# Altium footprint library Реле.PcbLib: 2 footprints
Each footprint in its own frame and in the unit in brackets; x right, y up, seen from the top. Pads: shape width x height; smd on the part's side, far side on the other; paste and mask are expansions set on the pad; w line width, h text height; cw(c..) or ccw(c..) is an arc to the next point about the centre after c.
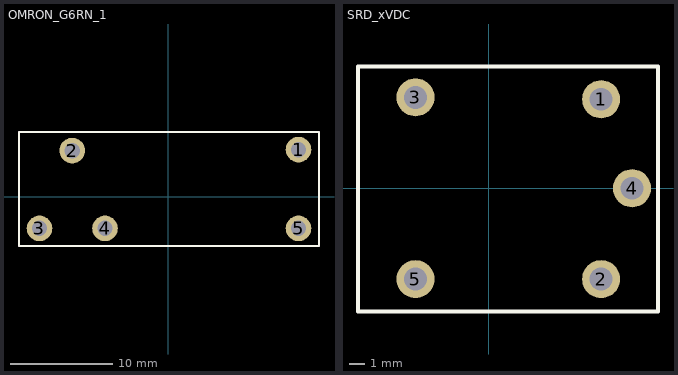
[diagram p0: the footprints below, top view; thin cyan lines are the x and y axes]

## OMRON_G6RN_1 [mm]
pads (5):
  round 2.5 hole 1.5: 1(12.7,4.6) 2(-9.4,4.5) 3(-12.6,-3.1) 4(-6.2,-3.1) 5(12.7,-3.1)
Top Overlay:
  lines w0.2: -14.6,-4.8 14.7,-4.8 14.7,6.3 -14.6,6.3 -14.6,-4.8
Top_ASSY:
  lines w0.2: -14.6,-4.8 -14.6,6.3 14.7,6.3 14.7,-4.8 -14.6,-4.8
  text ".Designator" at -10,1.5 h1.52
3D body "Omron_G6RN-1_relay.step": height 15.3, standoff -3.5, extent -14.4,-4.5 14.4,6

## SRD_xVDC [mm]
pads (5):
  round 2.5 hole 1.5: 1(7.366,5.842) 2(7.366,-5.969) 3(-4.826,5.969) 4(9.398,0) 5(-4.826,-5.969)
Top Overlay:
  lines w0.254: -8.6,-8.1 11.1,-8.1 11.1,8 -8.6,8 -8.6,-8.1
Top_ASSY:
  lines w0.2: -8.6,-8.1 11.1,-8.1 11.1,8 -8.6,8 -8.6,-8.1
  text ".Designator" at -0.4,1.2 h1.52
3D body "SRD.STEP": height 16.6, standoff -3.7, extent -8.307,-7.788 10.793,7.712